# Altium footprint library Conn_2x10_Hdr.PcbLib: 1 footprints
Each footprint in its own frame and in the unit in brackets; x right, y up, seen from the top. Pads: shape width x height; smd on the part's side, far side on the other; paste and mask are expansions set on the pad; w line width, h text height; cw(c..) or ccw(c..) is an arc to the next point about the centre after c.
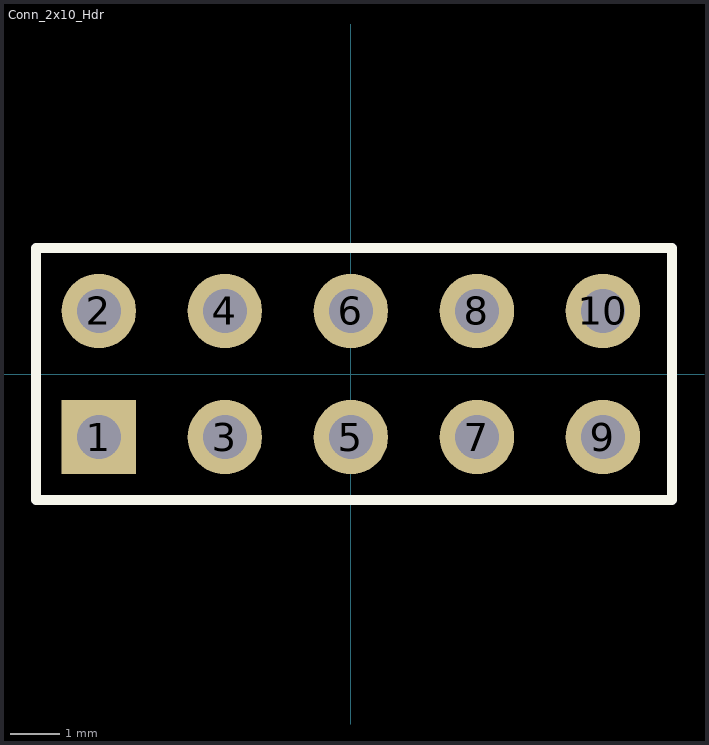
[diagram p0: the footprint, top view; thin cyan lines are the x and y axes]

## Conn_2x10_Hdr [mm] "2x10 IDC Header"
pads (10):
  rect 1.5x1.5 hole 0.889: 1(-5.08,-1.27)
  round 1.5 hole 0.889: 2(-5.08,1.27) 3(-2.54,-1.27) 4(-2.54,1.27) 5(0,-1.27) 6(0,1.27) 7(2.54,-1.27) 8(2.54,1.27) 9(5.08,-1.27) 10(5.08,1.27)
Top Overlay:
  lines w0.2: -6.35,-2.54 -6.35,2.54
  lines w0.203: -6.35,-2.54 6.477,-2.54 6.477,2.54 -6.35,2.54